# Altium schematic symbol library kmilo17pet-TI_LDO_400_7500.SchLib: 1409 symbols (part 25 of 60)
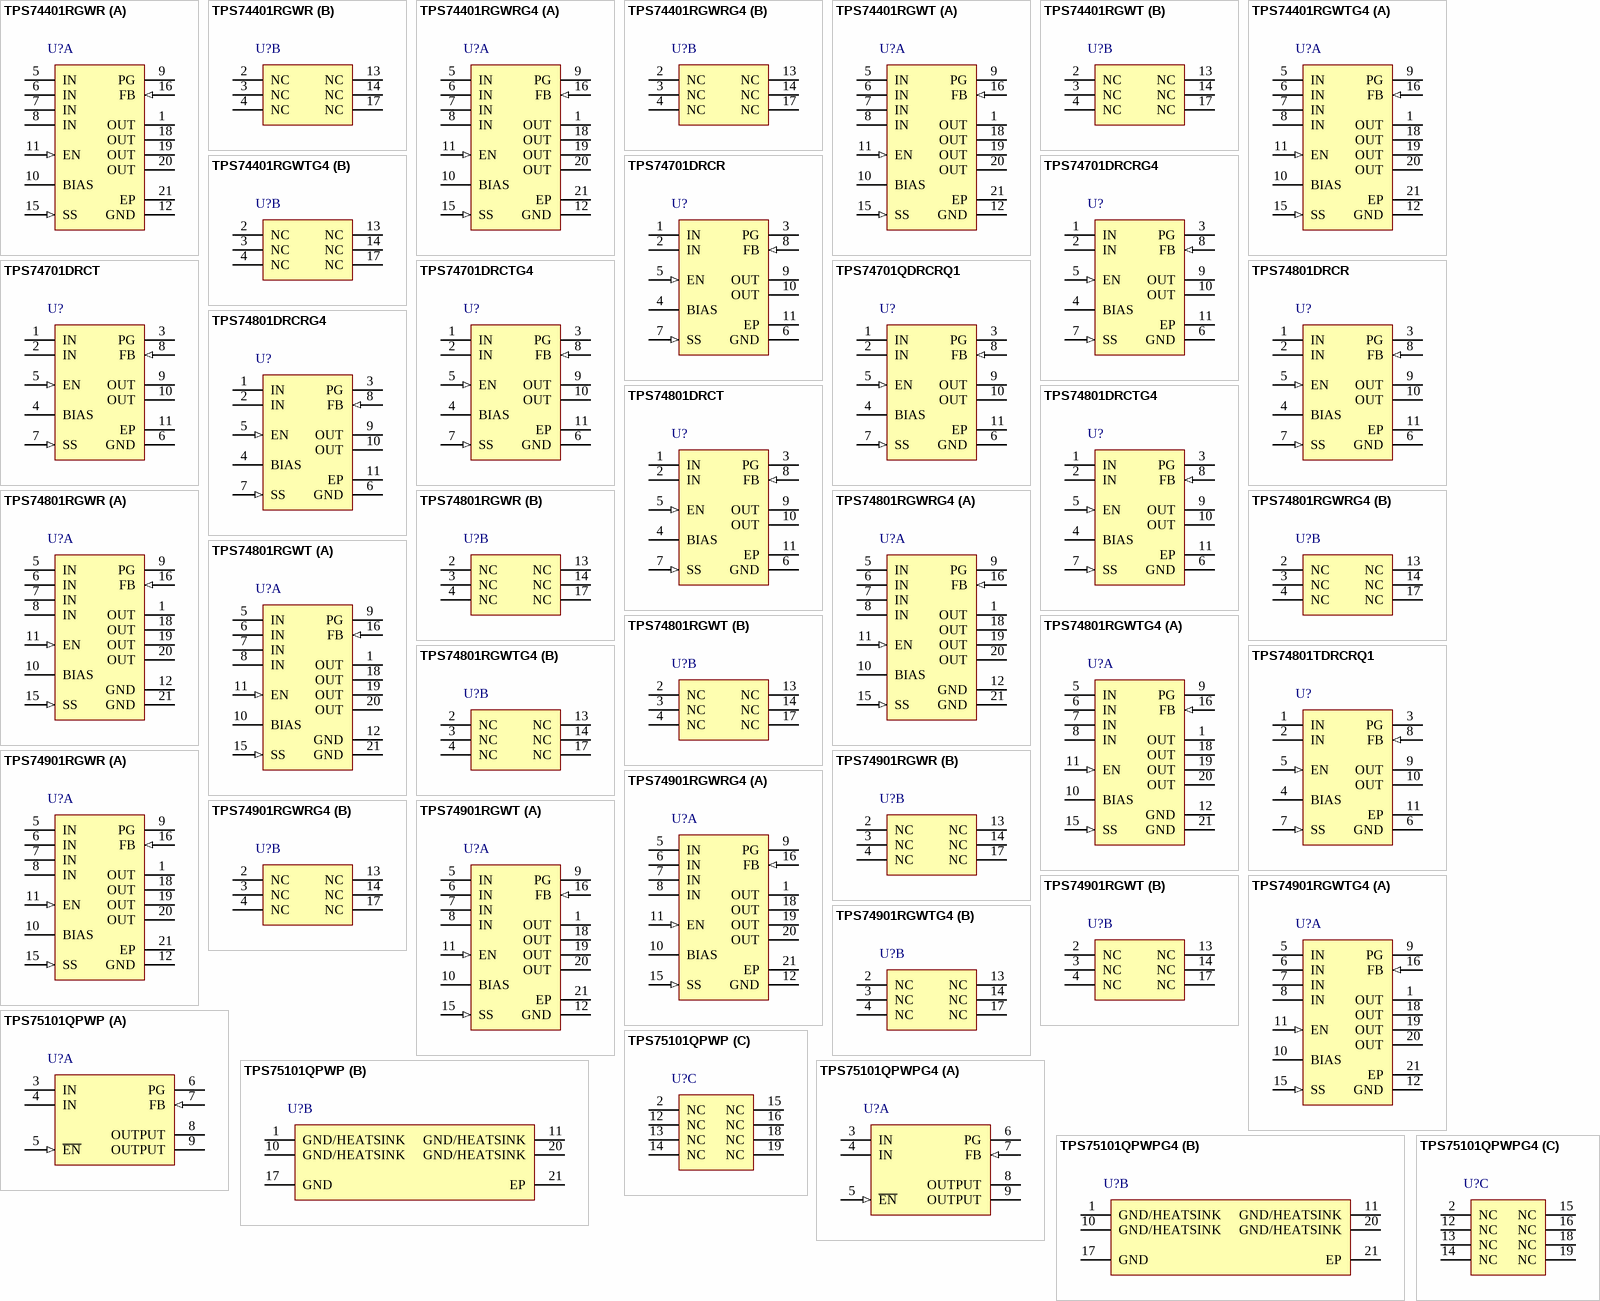
[diagram p74: symbols TPS74401RGWR to TPS75101QPWPG4]

## TPS74801DRCRG4
designator U?
Single Output LDO, 1.5 A, Adjustable 0.8 to 3.6 V Output, 0.8 to 5.5 V Input, with Programmable Soft Start, 10-pin SON (DRC), -40 to 125 degC, Green (RoHS & no Sb/Br); Manufacturer: Texas Instruments; PartNumber: TPS74801DRCRG4; Accuracy(%): 2; Iout(Max)(A): 1.5; Iq(Typ)(mA): 1; Power Good: TRUE; Rating: Catalog; SubFamily: Single Channel LDO; Vdo(Typ)(mV): 60; Vin(Max)(V): 5.5; Vin(Min)(V): 0.8; Vout Adj(Max)(V): 3.6; DatasheetVersion: SBVS074J; PackageVersion: 4204102-3/L; PackageReference: DRC10-2400X1650TP; PackageDescription: 10-Pin Plastic Small Outline, Body 3 x 3 mm, Pitch 0.5 mm; Supplier 1: Digi-Key; Supplier Part Number 1: TPS74801DRCRG4-ND; Supplier 2: Newark; Supplier Part Number 2: 34M0216; Supplier 3: Mouser; Supplier Part Number 3: 595-TPS74801DRCRG4; Eco-Plan: Green (RoHS & no Sb/Br); Vout Adj(Min)(V): 0.8; Mounting Technology: Surface Mount; ComponentLink1Description: Manufacturer URL; ComponentLink1URL: http://www.ti.com/; ComponentLink2Description: Datasheet; ComponentLink2URL: http://www.ti.com/general/docs/lit/getliterature.tsp?genericPartNumber=TPS74801&fileType=pdf; ComponentLink3Description: Package Specification; ComponentLink3URL: http://www.ti.com/litv/pdf/mpds117k; ComponentLink4Description: URL Link1; ComponentLink4URL: Samples URL:http://www.ti.com/product/tps74801#samples
footprint TI-DRC10-2400X1650TP_V (SON, 10-Leads, Body 3x3mm, Pitch 0.5mm, Thermal Pad 3x1.65mm)
pins: 1 IN (power) "Input to the device.", 2 IN (power) "Input to the device.", 3 PG (hiz) "Power Good pin. An open-drain, active-high output that indicates the status of VOUT. When VOUT exceeds the PG trip threshold, the PG pin goes into a high-impedance state. When VOUT is below this threshold the pin is driven (See Datasheet)", 4 BIAS (power) "Bias input voltage for error amplifier, reference, and internal control circuits.", 5 EN (in) "Enable pin. Driving this pin high enables the regulator. Driving this pin low puts the regulator into shutdown mode. This pin must not be left unconnected.", 6 GND (power) "Ground", 7 SS (in) "Soft-Start pin. A capacitor connected on this pin to ground sets the start-up time. If this pin is left unconnected, the regulator output soft-start ramp time is typically 200us.", 8 FB (in) "Feedback pin. The feedback connection to the center tap of an external resistor divider network that sets the output voltage. This pin must not be left floating.", 9 OUT (power) "Regulated output voltage. A small capacitor (total typical capacitance >= 2.2uF, ceramic) is needed from this pin to ground to assure stability.", 10 OUT (power) "Regulated output voltage. A small capacitor (total typical capacitance >= 2.2uF, ceramic) is needed from this pin to ground to assure stability.", 11 EP (power) "Should be soldered to the ground plane for increased thermal performance."

## TPS74801DRCT
designator U?
Single Output LDO, 1.5 A, Adjustable 0.8 to 3.6 V Output, 0.8 to 5.5 V Input, with Programmable Soft Start, 10-pin SON (DRC), -40 to 125 degC, Green (RoHS & no Sb/Br); Manufacturer: Texas Instruments; PartNumber: TPS74801DRCT; Accuracy(%): 2; Iout(Max)(A): 1.5; Iq(Typ)(mA): 1; Power Good: TRUE; Rating: Catalog; SubFamily: Single Channel LDO; Vdo(Typ)(mV): 60; Vin(Max)(V): 5.5; Vin(Min)(V): 0.8; Vout Adj(Max)(V): 3.6; DatasheetVersion: SBVS074J; PackageVersion: 4204102-3/L; PackageReference: DRC10-2400X1650TP; PackageDescription: 10-Pin Plastic Small Outline, Body 3 x 3 mm, Pitch 0.5 mm; Supplier 1: Digi-Key; Supplier Part Number 1: 296-27072-2-ND; Supplier 2: Digi-Key; Supplier Part Number 2: 296-27072-1-ND; Supplier 3: Digi-Key; Supplier Part Number 3: 296-27072-6-ND; Supplier 4: Newark; Supplier Part Number 4: 30M1869; Supplier 5: Mouser; Supplier Part Number 5: 595-TPS74801DRCT; Eco-Plan: Green (RoHS & no Sb/Br); Vout Adj(Min)(V): 0.8; Mounting Technology: Surface Mount; ComponentLink1Description: Manufacturer URL; ComponentLink1URL: http://www.ti.com/; ComponentLink2Description: Datasheet; ComponentLink2URL: http://www.ti.com/general/docs/lit/getliterature.tsp?genericPartNumber=TPS74801&fileType=pdf; ComponentLink3Description: Package Specification; ComponentLink3URL: http://www.ti.com/litv/pdf/mpds117k; ComponentLink4Description: URL Link1; ComponentLink4URL: Samples URL:http://www.ti.com/product/tps74801#samples
footprint TI-DRC10-2400X1650TP_V (SON, 10-Leads, Body 3x3mm, Pitch 0.5mm, Thermal Pad 3x1.65mm)
pins: 1 IN (power) "Input to the device.", 2 IN (power) "Input to the device.", 3 PG (hiz) "Power Good pin. An open-drain, active-high output that indicates the status of VOUT. When VOUT exceeds the PG trip threshold, the PG pin goes into a high-impedance state. When VOUT is below this threshold the pin is driven (See Datasheet)", 4 BIAS (power) "Bias input voltage for error amplifier, reference, and internal control circuits.", 5 EN (in) "Enable pin. Driving this pin high enables the regulator. Driving this pin low puts the regulator into shutdown mode. This pin must not be left unconnected.", 6 GND (power) "Ground", 7 SS (in) "Soft-Start pin. A capacitor connected on this pin to ground sets the start-up time. If this pin is left unconnected, the regulator output soft-start ramp time is typically 200us.", 8 FB (in) "Feedback pin. The feedback connection to the center tap of an external resistor divider network that sets the output voltage. This pin must not be left floating.", 9 OUT (power) "Regulated output voltage. A small capacitor (total typical capacitance >= 2.2uF, ceramic) is needed from this pin to ground to assure stability.", 10 OUT (power) "Regulated output voltage. A small capacitor (total typical capacitance >= 2.2uF, ceramic) is needed from this pin to ground to assure stability.", 11 EP (power) "Should be soldered to the ground plane for increased thermal performance."

## TPS74801DRCTG4
designator U?
Single Output LDO, 1.5 A, Adjustable 0.8 to 3.6 V Output, 0.8 to 5.5 V Input, with Programmable Soft Start, 10-pin SON (DRC), -40 to 125 degC, Green (RoHS & no Sb/Br); Manufacturer: Texas Instruments; PartNumber: TPS74801DRCTG4; Accuracy(%): 2; Iout(Max)(A): 1.5; Iq(Typ)(mA): 1; Power Good: TRUE; Rating: Catalog; SubFamily: Single Channel LDO; Vdo(Typ)(mV): 60; Vin(Max)(V): 5.5; Vin(Min)(V): 0.8; Vout Adj(Max)(V): 3.6; DatasheetVersion: SBVS074J; PackageVersion: 4204102-3/L; PackageReference: DRC10-2400X1650TP; PackageDescription: 10-Pin Plastic Small Outline, Body 3 x 3 mm, Pitch 0.5 mm; Supplier 1: Digi-Key; Supplier Part Number 1: TPS74801DRCTG4-ND; Supplier 2: Newark; Supplier Part Number 2: 34M0217; Supplier 3: Mouser; Supplier Part Number 3: 595-TPS74801DRCTG4; Eco-Plan: Green (RoHS & no Sb/Br); Vout Adj(Min)(V): 0.8; Mounting Technology: Surface Mount; ComponentLink1Description: Manufacturer URL; ComponentLink1URL: http://www.ti.com/; ComponentLink2Description: Datasheet; ComponentLink2URL: http://www.ti.com/general/docs/lit/getliterature.tsp?genericPartNumber=TPS74801&fileType=pdf; ComponentLink3Description: Package Specification; ComponentLink3URL: http://www.ti.com/litv/pdf/mpds117k; ComponentLink4Description: URL Link1; ComponentLink4URL: Samples URL:http://www.ti.com/product/tps74801#samples
footprint TI-DRC10-2400X1650TP_V (SON, 10-Leads, Body 3x3mm, Pitch 0.5mm, Thermal Pad 3x1.65mm)
pins: 1 IN (power) "Input to the device.", 2 IN (power) "Input to the device.", 3 PG (hiz) "Power Good pin. An open-drain, active-high output that indicates the status of VOUT. When VOUT exceeds the PG trip threshold, the PG pin goes into a high-impedance state. When VOUT is below this threshold the pin is driven (See Datasheet)", 4 BIAS (power) "Bias input voltage for error amplifier, reference, and internal control circuits.", 5 EN (in) "Enable pin. Driving this pin high enables the regulator. Driving this pin low puts the regulator into shutdown mode. This pin must not be left unconnected.", 6 GND (power) "Ground", 7 SS (in) "Soft-Start pin. A capacitor connected on this pin to ground sets the start-up time. If this pin is left unconnected, the regulator output soft-start ramp time is typically 200us.", 8 FB (in) "Feedback pin. The feedback connection to the center tap of an external resistor divider network that sets the output voltage. This pin must not be left floating.", 9 OUT (power) "Regulated output voltage. A small capacitor (total typical capacitance >= 2.2uF, ceramic) is needed from this pin to ground to assure stability.", 10 OUT (power) "Regulated output voltage. A small capacitor (total typical capacitance >= 2.2uF, ceramic) is needed from this pin to ground to assure stability.", 11 EP (power) "Should be soldered to the ground plane for increased thermal performance."

## TPS74801RGWR
designator U?
Single Output LDO, 1.5 A, Adjustable 0.8 to 3.6 V Output, 0.8 to 5.5 V Input, with Programmable Soft Start, 20-pin VQFN (RGW), -40 to 125 degC, Green (RoHS & no Sb/Br); Manufacturer: Texas Instruments; PartNumber: TPS74801RGWR; Accuracy(%): 2; Iout(Max)(A): 1.5; Iq(Typ)(mA): 1; Power Good: TRUE; Rating: Catalog; SubFamily: Single Channel LDO; Vdo(Typ)(mV): 60; Vin(Max)(V): 5.5; Vin(Min)(V): 0.8; Vout Adj(Max)(V): 3.6; DatasheetVersion: SBVS074J; PackageReference: RGW20-3150X3150TP; PackageDescription: 20-Pin Plastic Quad Flat No-Pin, 5 x 5 mm Body, 0.65 mm Pitch, 3.15 x 3.15 mm Exposed Pad; Supplier 1: Digi-Key; Supplier Part Number 1: 296-21977-2-ND; Supplier 2: Digi-Key; Supplier Part Number 2: 296-21977-1-ND; Supplier 3: Digi-Key; Supplier Part Number 3: 296-21977-6-ND; Supplier 4: Farnell; Supplier Part Number 4: 2120473; Supplier 5: Newark; Supplier Part Number 5: 94T5105; Supplier 6: Newark; Supplier Part Number 6: 46M9317; Supplier 7: Mouser; Supplier Part Number 7: 595-TPS74801RGWR; Eco-Plan: Green (RoHS & no Sb/Br); Vout Adj(Min)(V): 0.8; Mounting Technology: Surface Mount; Code_JEDEC: MO-220; ComponentLink1Description: Manufacturer URL; ComponentLink1URL: http://www.ti.com/; ComponentLink2Description: Datasheet; ComponentLink2URL: http://www.ti.com/general/docs/lit/getliterature.tsp?genericPartNumber=TPS74801&fileType=pdf; ComponentLink3Description: Package Specification; ComponentLink3URL: http://www.ti.com/litv/pdf/mpqf122b; ComponentLink4Description: URL Link1; ComponentLink4URL: Samples URL:http://www.ti.com/product/tps74801#samples
footprint TI-RGW20-3150X3150TP_V (QFN, 20-Leads, Body 5x5mm, Pitch 0.65mm, Thermal Pad 3.15x3.15mm)
part A pins: 1 OUT (power) "Regulated output voltage. A small capacitor (total typical capacitance >= 2.2uF, ceramic) is needed from this pin to ground to assure stability.", 5 IN (power) "Input to the device.", 6 IN (power) "Input to the device.", 7 IN (power) "Input to the device.", 8 IN (power) "Input to the device.", 9 PG (hiz) "Power Good pin. An open-drain, active-high output that indicates the status of VOUT. When VOUT exceeds the PG trip threshold, the PG pin goes into a high-impedance state. When VOUT is below this threshold the pin is driven (See Datasheet)", 10 BIAS (power) "Bias input voltage for error amplifier, reference, and internal control circuits.", 11 EN (in) "Enable pin. Driving this pin high enables the regulator. Driving this pin low puts the regulator into shutdown mode. This pin must not be left unconnected.", 12 GND (power), 15 SS (in) "Soft-Start pin. A capacitor connected on this pin to ground sets the start-up time. If this pin is left unconnected, the regulator output soft-start ramp time is typically 200us.", 16 FB (in) "Feedback pin. The feedback connection to the center tap of an external resistor divider network that sets the output voltage. This pin must not be left floating.", 18 OUT (power) "Regulated output voltage. A small capacitor (total typical capacitance >= 2.2uF, ceramic) is needed from this pin to ground to assure stability.", 19 OUT (power) "Regulated output voltage. A small capacitor (total typical capacitance >= 2.2uF, ceramic) is needed from this pin to ground to assure stability.", 20 OUT (power) "Regulated output voltage. A small capacitor (total typical capacitance >= 2.2uF, ceramic) is needed from this pin to ground to assure stability.", 21 GND (power) "Should be soldered to the ground plane for increased thermal performance."
part B pins: 2 NC "No connection. This pin can be left floating or connected to GND to allow better thermal contact to the top-side plane.", 3 NC "No connection. This pin can be left floating or connected to GND to allow better thermal contact to the top-side plane.", 4 NC "No connection. This pin can be left floating or connected to GND to allow better thermal contact to the top-side plane.", 13 NC "No connection. This pin can be left floating or connected to GND to allow better thermal contact to the top-side plane.", 14 NC "No connection. This pin can be left floating or connected to GND to allow better thermal contact to the top-side plane.", 17 NC "No connection. This pin can be left floating or connected to GND to allow better thermal contact to the top-side plane."

## TPS74801RGWRG4
designator U?
Single Output LDO, 1.5 A, Adjustable 0.8 to 3.6 V Output, 0.8 to 5.5 V Input, with Programmable Soft Start, 20-pin VQFN (RGW), -40 to 125 degC, Green (RoHS & no Sb/Br); Manufacturer: Texas Instruments; PartNumber: TPS74801RGWRG4; Accuracy(%): 2; Iout(Max)(A): 1.5; Iq(Typ)(mA): 1; Power Good: TRUE; Rating: Catalog; SubFamily: Single Channel LDO; Vdo(Typ)(mV): 60; Vin(Max)(V): 5.5; Vin(Min)(V): 0.8; Vout Adj(Max)(V): 3.6; DatasheetVersion: SBVS074J; PackageReference: RGW20-3150X3150TP; PackageDescription: 20-Pin Plastic Quad Flat No-Pin, 5 x 5 mm Body, 0.65 mm Pitch, 3.15 x 3.15 mm Exposed Pad; Supplier 1: Digi-Key; Supplier Part Number 1: TPS74801RGWRG4-ND; Supplier 2: Newark; Supplier Part Number 2: 52M6164; Supplier 3: Mouser; Supplier Part Number 3: 595-TPS74801RGWRG4; Eco-Plan: Green (RoHS & no Sb/Br); Vout Adj(Min)(V): 0.8; Mounting Technology: Surface Mount; Code_JEDEC: MO-220; ComponentLink1Description: Manufacturer URL; ComponentLink1URL: http://www.ti.com/; ComponentLink2Description: Datasheet; ComponentLink2URL: http://www.ti.com/general/docs/lit/getliterature.tsp?genericPartNumber=TPS74801&fileType=pdf; ComponentLink3Description: Package Specification; ComponentLink3URL: http://www.ti.com/litv/pdf/mpqf122b; ComponentLink4Description: URL Link1; ComponentLink4URL: Samples URL:http://www.ti.com/product/tps74801#samples
footprint TI-RGW20-3150X3150TP_V (QFN, 20-Leads, Body 5x5mm, Pitch 0.65mm, Thermal Pad 3.15x3.15mm)
part A pins: 1 OUT (power) "Regulated output voltage. A small capacitor (total typical capacitance >= 2.2uF, ceramic) is needed from this pin to ground to assure stability.", 5 IN (power) "Input to the device.", 6 IN (power) "Input to the device.", 7 IN (power) "Input to the device.", 8 IN (power) "Input to the device.", 9 PG (hiz) "Power Good pin. An open-drain, active-high output that indicates the status of VOUT. When VOUT exceeds the PG trip threshold, the PG pin goes into a high-impedance state. When VOUT is below this threshold the pin is driven (See Datasheet)", 10 BIAS (power) "Bias input voltage for error amplifier, reference, and internal control circuits.", 11 EN (in) "Enable pin. Driving this pin high enables the regulator. Driving this pin low puts the regulator into shutdown mode. This pin must not be left unconnected.", 12 GND (power), 15 SS (in) "Soft-Start pin. A capacitor connected on this pin to ground sets the start-up time. If this pin is left unconnected, the regulator output soft-start ramp time is typically 200us.", 16 FB (in) "Feedback pin. The feedback connection to the center tap of an external resistor divider network that sets the output voltage. This pin must not be left floating.", 18 OUT (power) "Regulated output voltage. A small capacitor (total typical capacitance >= 2.2uF, ceramic) is needed from this pin to ground to assure stability.", 19 OUT (power) "Regulated output voltage. A small capacitor (total typical capacitance >= 2.2uF, ceramic) is needed from this pin to ground to assure stability.", 20 OUT (power) "Regulated output voltage. A small capacitor (total typical capacitance >= 2.2uF, ceramic) is needed from this pin to ground to assure stability.", 21 GND (power) "Should be soldered to the ground plane for increased thermal performance."
part B pins: 2 NC "No connection. This pin can be left floating or connected to GND to allow better thermal contact to the top-side plane.", 3 NC "No connection. This pin can be left floating or connected to GND to allow better thermal contact to the top-side plane.", 4 NC "No connection. This pin can be left floating or connected to GND to allow better thermal contact to the top-side plane.", 13 NC "No connection. This pin can be left floating or connected to GND to allow better thermal contact to the top-side plane.", 14 NC "No connection. This pin can be left floating or connected to GND to allow better thermal contact to the top-side plane.", 17 NC "No connection. This pin can be left floating or connected to GND to allow better thermal contact to the top-side plane."

## TPS74801RGWT
designator U?
Single Output LDO, 1.5 A, Adjustable 0.8 to 3.6 V Output, 0.8 to 5.5 V Input, with Programmable Soft Start, 20-pin VQFN (RGW), -40 to 125 degC, Green (RoHS & no Sb/Br); Manufacturer: Texas Instruments; PartNumber: TPS74801RGWT; Accuracy(%): 2; Iout(Max)(A): 1.5; Iq(Typ)(mA): 1; Power Good: TRUE; Rating: Catalog; SubFamily: Single Channel LDO; Vdo(Typ)(mV): 60; Vin(Max)(V): 5.5; Vin(Min)(V): 0.8; Vout Adj(Max)(V): 3.6; DatasheetVersion: SBVS074J; PackageReference: RGW20-3150X3150TP; PackageDescription: 20-Pin Plastic Quad Flat No-Pin, 5 x 5 mm Body, 0.65 mm Pitch, 3.15 x 3.15 mm Exposed Pad; Supplier 1: Digi-Key; Supplier Part Number 1: 296-27073-2-ND; Supplier 2: Digi-Key; Supplier Part Number 2: 296-27073-1-ND; Supplier 3: Digi-Key; Supplier Part Number 3: 296-27073-6-ND; Supplier 4: Farnell; Supplier Part Number 4: 2075412; Supplier 5: Newark; Supplier Part Number 5: 82T3177; Supplier 6: Newark; Supplier Part Number 6: 78M6643; Supplier 7: Mouser; Supplier Part Number 7: 595-TPS74801RGWT; Eco-Plan: Green (RoHS & no Sb/Br); Vout Adj(Min)(V): 0.8; Mounting Technology: Surface Mount; Code_JEDEC: MO-220; ComponentLink1Description: Manufacturer URL; ComponentLink1URL: http://www.ti.com/; ComponentLink2Description: Datasheet; ComponentLink2URL: http://www.ti.com/general/docs/lit/getliterature.tsp?genericPartNumber=TPS74801&fileType=pdf; ComponentLink3Description: Package Specification; ComponentLink3URL: http://www.ti.com/litv/pdf/mpqf122b; ComponentLink4Description: URL Link1; ComponentLink4URL: Samples URL:http://www.ti.com/product/tps74801#samples
footprint TI-RGW20-3150X3150TP_V (QFN, 20-Leads, Body 5x5mm, Pitch 0.65mm, Thermal Pad 3.15x3.15mm)
part A pins: 1 OUT (power) "Regulated output voltage. A small capacitor (total typical capacitance >= 2.2uF, ceramic) is needed from this pin to ground to assure stability.", 5 IN (power) "Input to the device.", 6 IN (power) "Input to the device.", 7 IN (power) "Input to the device.", 8 IN (power) "Input to the device.", 9 PG (hiz) "Power Good pin. An open-drain, active-high output that indicates the status of VOUT. When VOUT exceeds the PG trip threshold, the PG pin goes into a high-impedance state. When VOUT is below this threshold the pin is driven (See Datasheet)", 10 BIAS (power) "Bias input voltage for error amplifier, reference, and internal control circuits.", 11 EN (in) "Enable pin. Driving this pin high enables the regulator. Driving this pin low puts the regulator into shutdown mode. This pin must not be left unconnected.", 12 GND (power), 15 SS (in) "Soft-Start pin. A capacitor connected on this pin to ground sets the start-up time. If this pin is left unconnected, the regulator output soft-start ramp time is typically 200us.", 16 FB (in) "Feedback pin. The feedback connection to the center tap of an external resistor divider network that sets the output voltage. This pin must not be left floating.", 18 OUT (power) "Regulated output voltage. A small capacitor (total typical capacitance >= 2.2uF, ceramic) is needed from this pin to ground to assure stability.", 19 OUT (power) "Regulated output voltage. A small capacitor (total typical capacitance >= 2.2uF, ceramic) is needed from this pin to ground to assure stability.", 20 OUT (power) "Regulated output voltage. A small capacitor (total typical capacitance >= 2.2uF, ceramic) is needed from this pin to ground to assure stability.", 21 GND (power) "Should be soldered to the ground plane for increased thermal performance."
part B pins: 2 NC "No connection. This pin can be left floating or connected to GND to allow better thermal contact to the top-side plane.", 3 NC "No connection. This pin can be left floating or connected to GND to allow better thermal contact to the top-side plane.", 4 NC "No connection. This pin can be left floating or connected to GND to allow better thermal contact to the top-side plane.", 13 NC "No connection. This pin can be left floating or connected to GND to allow better thermal contact to the top-side plane.", 14 NC "No connection. This pin can be left floating or connected to GND to allow better thermal contact to the top-side plane.", 17 NC "No connection. This pin can be left floating or connected to GND to allow better thermal contact to the top-side plane."

## TPS74801RGWTG4
designator U?
Single Output LDO, 1.5 A, Adjustable 0.8 to 3.6 V Output, 0.8 to 5.5 V Input, with Programmable Soft Start, 20-pin VQFN (RGW), -40 to 125 degC, Green (RoHS & no Sb/Br); Manufacturer: Texas Instruments; PartNumber: TPS74801RGWTG4; Accuracy(%): 2; Iout(Max)(A): 1.5; Iq(Typ)(mA): 1; Power Good: TRUE; Rating: Catalog; SubFamily: Single Channel LDO; Vdo(Typ)(mV): 60; Vin(Max)(V): 5.5; Vin(Min)(V): 0.8; Vout Adj(Max)(V): 3.6; DatasheetVersion: SBVS074J; PackageReference: RGW20-3150X3150TP; PackageDescription: 20-Pin Plastic Quad Flat No-Pin, 5 x 5 mm Body, 0.65 mm Pitch, 3.15 x 3.15 mm Exposed Pad; Supplier 1: Digi-Key; Supplier Part Number 1: TPS74801RGWTG4-ND; Supplier 2: Newark; Supplier Part Number 2: 52M6165; Supplier 3: Mouser; Supplier Part Number 3: 595-TPS74801RGWTG4; Eco-Plan: Green (RoHS & no Sb/Br); Vout Adj(Min)(V): 0.8; Mounting Technology: Surface Mount; Code_JEDEC: MO-220; ComponentLink1Description: Manufacturer URL; ComponentLink1URL: http://www.ti.com/; ComponentLink2Description: Datasheet; ComponentLink2URL: http://www.ti.com/general/docs/lit/getliterature.tsp?genericPartNumber=TPS74801&fileType=pdf; ComponentLink3Description: Package Specification; ComponentLink3URL: http://www.ti.com/litv/pdf/mpqf122b; ComponentLink4Description: URL Link1; ComponentLink4URL: Samples URL:http://www.ti.com/product/tps74801#samples
footprint TI-RGW20-3150X3150TP_V (QFN, 20-Leads, Body 5x5mm, Pitch 0.65mm, Thermal Pad 3.15x3.15mm)
part A pins: 1 OUT (power) "Regulated output voltage. A small capacitor (total typical capacitance >= 2.2uF, ceramic) is needed from this pin to ground to assure stability.", 5 IN (power) "Input to the device.", 6 IN (power) "Input to the device.", 7 IN (power) "Input to the device.", 8 IN (power) "Input to the device.", 9 PG (hiz) "Power Good pin. An open-drain, active-high output that indicates the status of VOUT. When VOUT exceeds the PG trip threshold, the PG pin goes into a high-impedance state. When VOUT is below this threshold the pin is driven (See Datasheet)", 10 BIAS (power) "Bias input voltage for error amplifier, reference, and internal control circuits.", 11 EN (in) "Enable pin. Driving this pin high enables the regulator. Driving this pin low puts the regulator into shutdown mode. This pin must not be left unconnected.", 12 GND (power), 15 SS (in) "Soft-Start pin. A capacitor connected on this pin to ground sets the start-up time. If this pin is left unconnected, the regulator output soft-start ramp time is typically 200us.", 16 FB (in) "Feedback pin. The feedback connection to the center tap of an external resistor divider network that sets the output voltage. This pin must not be left floating.", 18 OUT (power) "Regulated output voltage. A small capacitor (total typical capacitance >= 2.2uF, ceramic) is needed from this pin to ground to assure stability.", 19 OUT (power) "Regulated output voltage. A small capacitor (total typical capacitance >= 2.2uF, ceramic) is needed from this pin to ground to assure stability.", 20 OUT (power) "Regulated output voltage. A small capacitor (total typical capacitance >= 2.2uF, ceramic) is needed from this pin to ground to assure stability.", 21 GND (power) "Should be soldered to the ground plane for increased thermal performance."
part B pins: 2 NC "No connection. This pin can be left floating or connected to GND to allow better thermal contact to the top-side plane.", 3 NC "No connection. This pin can be left floating or connected to GND to allow better thermal contact to the top-side plane.", 4 NC "No connection. This pin can be left floating or connected to GND to allow better thermal contact to the top-side plane.", 13 NC "No connection. This pin can be left floating or connected to GND to allow better thermal contact to the top-side plane.", 14 NC "No connection. This pin can be left floating or connected to GND to allow better thermal contact to the top-side plane.", 17 NC "No connection. This pin can be left floating or connected to GND to allow better thermal contact to the top-side plane."

## TPS74801TDRCRQ1
designator U?
Single Output LDO, 1.5 A, Adjustable 0.8 to 3.6 V Output, 0.8 to 5.5 V Input, with Programmable Soft Start, 10-pin SON (DRC), -40 to 105 degC, Green (RoHS & no Sb/Br); Manufacturer: Texas Instruments; PartNumber: TPS74801TDRCRQ1; Accuracy(%): 2; Iout(Max)(A): 1.5; Iq(Typ)(mA): 1; Power Good: TRUE; Rating: Automotive; SubFamily: Single Channel LDO; Vdo(Typ)(mV): 60; Vin(Max)(V): 5.5; Vin(Min)(V): 0.8; Vout Adj(Max)(V): 3.6; DatasheetVersion: SLVSAI4A; PackageVersion: 4204102-3/L; PackageReference: DRC10-2400X1650TP; PackageDescription: 10-Pin Plastic Small Outline, Body 3 x 3 mm, Pitch 0.5 mm; Supplier 1: Digi-Key; Supplier Part Number 1: 296-27887-2-ND; Supplier 2: Digi-Key; Supplier Part Number 2: 296-27887-1-ND; Supplier 3: Digi-Key; Supplier Part Number 3: 296-27887-6-ND; Supplier 4: Newark; Supplier Part Number 4: 13T5968; Supplier 5: Mouser; Supplier Part Number 5: 595-TPS74801TDRCRQ1; Eco-Plan: Green (RoHS & no Sb/Br); Vout Adj(Min)(V): 0.8; Mounting Technology: Surface Mount; ComponentLink1Description: Manufacturer URL; ComponentLink1URL: http://www.ti.com/; ComponentLink2Description: Datasheet; ComponentLink2URL: http://www.ti.com/general/docs/lit/getliterature.tsp?genericPartNumber=TPS74801-Q1&fileType=pdf; ComponentLink3Description: Package Specification; ComponentLink3URL: http://www.ti.com/litv/pdf/mpds117k; ComponentLink4Description: URL Link1; ComponentLink4URL: Samples URL:http://www.ti.com/product/tps74801-q1#samples
footprint TI-DRC10-2400X1650TP_V (SON, 10-Leads, Body 3x3mm, Pitch 0.5mm, Thermal Pad 3x1.65mm)
pins: 1 IN (power) "Input to the device.", 2 IN (power) "Input to the device.", 3 PG (hiz) "Power Good pin. An open-drain, active-high output that indicates the status of VOUT. When VOUT exceeds the PG trip threshold, the PG pin goes into a high-impedance state. When VOUT is below this threshold the pin is driven (See Datasheet)", 4 BIAS (power) "Bias input voltage for error amplifier, reference, and internal control circuits.", 5 EN (in) "Enable pin. Driving this pin high enables the regulator. Driving this pin low puts the regulator into shutdown mode. This pin must not be left unconnected.", 6 GND (power) "Ground", 7 SS (in) "Soft-Start pin. A capacitor connected on this pin to ground sets the start-up time. If this pin is left unconnected, the regulator output soft-start ramp time is typically 200us.", 8 FB (in) "Feedback pin. The feedback connection to the center tap of an external resistor divider network that sets the output voltage. This pin must not be left floating.", 9 OUT (power) "Regulated output voltage. A small capacitor (total typical capacitance >= 2.2uF, ceramic) is needed from this pin to ground to assure stability.", 10 OUT (power) "Regulated output voltage. A small capacitor (total typical capacitance >= 2.2uF, ceramic) is needed from this pin to ground to assure stability.", 11 EP (power) "Should be soldered to the ground plane for increased thermal performance."

## TPS74901RGWR
designator U?
Single Output LDO, 3 A, Adjustable 0.8 to 3.6 V Output, 0.8 to 5.5 V Input, with Programmable Soft Start, 20-pin VQFN (RGW), -40 to 125 degC, Green (RoHS & no Sb/Br); Manufacturer: Texas Instruments; PartNumber: TPS74901RGWR; Accuracy(%): 2; Iout(Max)(A): 3; Power Good: TRUE; Rating: Catalog; SubFamily: Single Channel LDO; Vdo(Typ)(mV): 120; Vin(Max)(V): 5.5; Vin(Min)(V): 0.8; Vout Adj(Max)(V): 3.6; DatasheetVersion: SBVS082G; PackageReference: RGW20-3150X3150TP; PackageDescription: 20-Pin Plastic Quad Flat No-Pin, 5 x 5 mm Body, 0.65 mm Pitch, 3.15 x 3.15 mm Exposed Pad; Supplier 1: Digi-Key; Supplier Part Number 1: 296-22498-2-ND; Supplier 2: Digi-Key; Supplier Part Number 2: 296-22498-1-ND; Supplier 3: Digi-Key; Supplier Part Number 3: 296-22498-6-ND; Supplier 4: Newark; Supplier Part Number 4: 48M0958; Supplier 5: Mouser; Supplier Part Number 5: 595-TPS74901RGWR; Eco-Plan: Green (RoHS & no Sb/Br); Iq(Typ)(mA): 3; Vout Adj(Min)(V): 0.8; Mounting Technology: Surface Mount; Code_JEDEC: MO-220; ComponentLink1Description: Manufacturer URL; ComponentLink1URL: http://www.ti.com/; ComponentLink2Description: Datasheet; ComponentLink2URL: http://www.ti.com/general/docs/lit/getliterature.tsp?genericPartNumber=TPS74901&fileType=pdf; ComponentLink3Description: Package Specification; ComponentLink3URL: http://www.ti.com/litv/pdf/mpqf122b
footprint TI-RGW20-3150X3150TP_V (QFN, 20-Leads, Body 5x5mm, Pitch 0.65mm, Thermal Pad 3.15x3.15mm)
part A pins: 1 OUT (power) "Regulated output voltage. No capacitor is required on this pin for stability.", 5 IN (power) "Unregulated input to the device.", 6 IN (power) "Unregulated input to the device.", 7 IN (power) "Unregulated input to the device.", 8 IN (power) "Unregulated input to the device.", 9 PG (hiz) "Power-Good (PG) is an open-drain, active-high output that indicates the status of VOUT. When VOUT exceeds the PG trip threshold, the PG pin goes into a high-impedance state. When VOUT is below this threshold the pin is (See Datasheet)", 10 BIAS (power) "Bias input voltage for error amplifier, reference, and internal control circuits.", 11 EN (in) "Enable pin. Driving this pin high enables the regulator. Driving this pin low puts the regulator into shutdown mode. This pin must not be left floating.", 12 GND (power) "Ground", 15 SS (in) "Soft-Start pin. A capacitor connected on this pin to ground sets the start-up time. If this pin is left floating, the regulator output soft-start ramp time is typically 100us.", 16 FB (in) "This pin is the feedback connection to the center tap of an external resistor divider network that sets the output voltage. This pin must not be left floating.", 18 OUT (power) "Regulated output voltage. No capacitor is required on this pin for stability.", 19 OUT (power) "Regulated output voltage. No capacitor is required on this pin for stability.", 20 OUT (power) "Regulated output voltage. No capacitor is required on this pin for stability.", 21 EP (power) "Should be soldered to the ground plane for increased thermal performance."
part B pins: 2 NC "No connection. This pin can be left floating or connected to GND to allow better thermal contact to the top-side plane.", 3 NC "No connection. This pin can be left floating or connected to GND to allow better thermal contact to the top-side plane.", 4 NC "No connection. This pin can be left floating or connected to GND to allow better thermal contact to the top-side plane.", 13 NC "No connection. This pin can be left floating or connected to GND to allow better thermal contact to the top-side plane.", 14 NC "No connection. This pin can be left floating or connected to GND to allow better thermal contact to the top-side plane.", 17 NC "No connection. This pin can be left floating or connected to GND to allow better thermal contact to the top-side plane."

## TPS74901RGWRG4
designator U?
Single Output LDO, 3 A, Adjustable 0.8 to 3.6 V Output, 0.8 to 5.5 V Input, with Programmable Soft Start, 20-pin VQFN (RGW), -40 to 125 degC, Green (RoHS & no Sb/Br); Manufacturer: Texas Instruments; PartNumber: TPS74901RGWRG4; Accuracy(%): 2; Iout(Max)(A): 3; Power Good: TRUE; Rating: Catalog; SubFamily: Single Channel LDO; Vdo(Typ)(mV): 120; Vin(Max)(V): 5.5; Vin(Min)(V): 0.8; Vout Adj(Max)(V): 3.6; DatasheetVersion: SBVS082G; PackageReference: RGW20-3150X3150TP; PackageDescription: 20-Pin Plastic Quad Flat No-Pin, 5 x 5 mm Body, 0.65 mm Pitch, 3.15 x 3.15 mm Exposed Pad; Supplier 1: Digi-Key; Supplier Part Number 1: TPS74901RGWRG4-ND; Supplier 2: Newark; Supplier Part Number 2: 52M6168; Supplier 3: Mouser; Supplier Part Number 3: 595-TPS74901RGWRG4; Eco-Plan: Green (RoHS & no Sb/Br); Iq(Typ)(mA): 3; Vout Adj(Min)(V): 0.8; Mounting Technology: Surface Mount; Code_JEDEC: MO-220; ComponentLink1Description: Manufacturer URL; ComponentLink1URL: http://www.ti.com/; ComponentLink2Description: Datasheet; ComponentLink2URL: http://www.ti.com/general/docs/lit/getliterature.tsp?genericPartNumber=TPS74901&fileType=pdf; ComponentLink3Description: Package Specification; ComponentLink3URL: http://www.ti.com/litv/pdf/mpqf122b
footprint TI-RGW20-3150X3150TP_V (QFN, 20-Leads, Body 5x5mm, Pitch 0.65mm, Thermal Pad 3.15x3.15mm)
part A pins: 1 OUT (power) "Regulated output voltage. No capacitor is required on this pin for stability.", 5 IN (power) "Unregulated input to the device.", 6 IN (power) "Unregulated input to the device.", 7 IN (power) "Unregulated input to the device.", 8 IN (power) "Unregulated input to the device.", 9 PG (hiz) "Power-Good (PG) is an open-drain, active-high output that indicates the status of VOUT. When VOUT exceeds the PG trip threshold, the PG pin goes into a high-impedance state. When VOUT is below this threshold the pin is (See Datasheet)", 10 BIAS (power) "Bias input voltage for error amplifier, reference, and internal control circuits.", 11 EN (in) "Enable pin. Driving this pin high enables the regulator. Driving this pin low puts the regulator into shutdown mode. This pin must not be left floating.", 12 GND (power) "Ground", 15 SS (in) "Soft-Start pin. A capacitor connected on this pin to ground sets the start-up time. If this pin is left floating, the regulator output soft-start ramp time is typically 100us.", 16 FB (in) "This pin is the feedback connection to the center tap of an external resistor divider network that sets the output voltage. This pin must not be left floating.", 18 OUT (power) "Regulated output voltage. No capacitor is required on this pin for stability.", 19 OUT (power) "Regulated output voltage. No capacitor is required on this pin for stability.", 20 OUT (power) "Regulated output voltage. No capacitor is required on this pin for stability.", 21 EP (power) "Should be soldered to the ground plane for increased thermal performance."
part B pins: 2 NC "No connection. This pin can be left floating or connected to GND to allow better thermal contact to the top-side plane.", 3 NC "No connection. This pin can be left floating or connected to GND to allow better thermal contact to the top-side plane.", 4 NC "No connection. This pin can be left floating or connected to GND to allow better thermal contact to the top-side plane.", 13 NC "No connection. This pin can be left floating or connected to GND to allow better thermal contact to the top-side plane.", 14 NC "No connection. This pin can be left floating or connected to GND to allow better thermal contact to the top-side plane.", 17 NC "No connection. This pin can be left floating or connected to GND to allow better thermal contact to the top-side plane."

## TPS74901RGWT
designator U?
Single Output LDO, 3 A, Adjustable 0.8 to 3.6 V Output, 0.8 to 5.5 V Input, with Programmable Soft Start, 20-pin VQFN (RGW), -40 to 125 degC, Green (RoHS & no Sb/Br); Manufacturer: Texas Instruments; PartNumber: TPS74901RGWT; Accuracy(%): 2; Iout(Max)(A): 3; Power Good: TRUE; Rating: Catalog; SubFamily: Single Channel LDO; Vdo(Typ)(mV): 120; Vin(Max)(V): 5.5; Vin(Min)(V): 0.8; Vout Adj(Max)(V): 3.6; DatasheetVersion: SBVS082G; PackageReference: RGW20-3150X3150TP; PackageDescription: 20-Pin Plastic Quad Flat No-Pin, 5 x 5 mm Body, 0.65 mm Pitch, 3.15 x 3.15 mm Exposed Pad; Supplier 1: Digi-Key; Supplier Part Number 1: 296-29842-2-ND; Supplier 2: Digi-Key; Supplier Part Number 2: 296-29842-1-ND; Supplier 3: Digi-Key; Supplier Part Number 3: 296-29842-6-ND; Supplier 4: Farnell; Supplier Part Number 4: 2075418; Supplier 5: Newark; Supplier Part Number 5: 48M0959; Supplier 6: Mouser; Supplier Part Number 6: 595-TPS74901RGWT; Eco-Plan: Green (RoHS & no Sb/Br); Iq(Typ)(mA): 3; Vout Adj(Min)(V): 0.8; Mounting Technology: Surface Mount; Code_JEDEC: MO-220; ComponentLink1Description: Manufacturer URL; ComponentLink1URL: http://www.ti.com/; ComponentLink2Description: Datasheet; ComponentLink2URL: http://www.ti.com/general/docs/lit/getliterature.tsp?genericPartNumber=TPS74901&fileType=pdf; ComponentLink3Description: Package Specification; ComponentLink3URL: http://www.ti.com/litv/pdf/mpqf122b
footprint TI-RGW20-3150X3150TP_V (QFN, 20-Leads, Body 5x5mm, Pitch 0.65mm, Thermal Pad 3.15x3.15mm)
part A pins: 1 OUT (power) "Regulated output voltage. No capacitor is required on this pin for stability.", 5 IN (power) "Unregulated input to the device.", 6 IN (power) "Unregulated input to the device.", 7 IN (power) "Unregulated input to the device.", 8 IN (power) "Unregulated input to the device.", 9 PG (hiz) "Power-Good (PG) is an open-drain, active-high output that indicates the status of VOUT. When VOUT exceeds the PG trip threshold, the PG pin goes into a high-impedance state. When VOUT is below this threshold the pin is (See Datasheet)", 10 BIAS (power) "Bias input voltage for error amplifier, reference, and internal control circuits.", 11 EN (in) "Enable pin. Driving this pin high enables the regulator. Driving this pin low puts the regulator into shutdown mode. This pin must not be left floating.", 12 GND (power) "Ground", 15 SS (in) "Soft-Start pin. A capacitor connected on this pin to ground sets the start-up time. If this pin is left floating, the regulator output soft-start ramp time is typically 100us.", 16 FB (in) "This pin is the feedback connection to the center tap of an external resistor divider network that sets the output voltage. This pin must not be left floating.", 18 OUT (power) "Regulated output voltage. No capacitor is required on this pin for stability.", 19 OUT (power) "Regulated output voltage. No capacitor is required on this pin for stability.", 20 OUT (power) "Regulated output voltage. No capacitor is required on this pin for stability.", 21 EP (power) "Should be soldered to the ground plane for increased thermal performance."
part B pins: 2 NC "No connection. This pin can be left floating or connected to GND to allow better thermal contact to the top-side plane.", 3 NC "No connection. This pin can be left floating or connected to GND to allow better thermal contact to the top-side plane.", 4 NC "No connection. This pin can be left floating or connected to GND to allow better thermal contact to the top-side plane.", 13 NC "No connection. This pin can be left floating or connected to GND to allow better thermal contact to the top-side plane.", 14 NC "No connection. This pin can be left floating or connected to GND to allow better thermal contact to the top-side plane.", 17 NC "No connection. This pin can be left floating or connected to GND to allow better thermal contact to the top-side plane."

## TPS74901RGWTG4
designator U?
Single Output LDO, 3 A, Adjustable 0.8 to 3.6 V Output, 0.8 to 5.5 V Input, with Programmable Soft Start, 20-pin VQFN (RGW), -40 to 125 degC, Green (RoHS & no Sb/Br); Manufacturer: Texas Instruments; PartNumber: TPS74901RGWTG4; Accuracy(%): 2; Iout(Max)(A): 3; Power Good: TRUE; Rating: Catalog; SubFamily: Single Channel LDO; Vdo(Typ)(mV): 120; Vin(Max)(V): 5.5; Vin(Min)(V): 0.8; Vout Adj(Max)(V): 3.6; DatasheetVersion: SBVS082G; PackageReference: RGW20-3150X3150TP; PackageDescription: 20-Pin Plastic Quad Flat No-Pin, 5 x 5 mm Body, 0.65 mm Pitch, 3.15 x 3.15 mm Exposed Pad; Supplier 1: Digi-Key; Supplier Part Number 1: TPS74901RGWTG4-ND; Supplier 2: Newark; Supplier Part Number 2: 52M6169; Supplier 3: Mouser; Supplier Part Number 3: 595-TPS74901RGWTG4; Eco-Plan: Green (RoHS & no Sb/Br); Iq(Typ)(mA): 3; Vout Adj(Min)(V): 0.8; Mounting Technology: Surface Mount; Code_JEDEC: MO-220; ComponentLink1Description: Manufacturer URL; ComponentLink1URL: http://www.ti.com/; ComponentLink2Description: Datasheet; ComponentLink2URL: http://www.ti.com/general/docs/lit/getliterature.tsp?genericPartNumber=TPS74901&fileType=pdf; ComponentLink3Description: Package Specification; ComponentLink3URL: http://www.ti.com/litv/pdf/mpqf122b
footprint TI-RGW20-3150X3150TP_V (QFN, 20-Leads, Body 5x5mm, Pitch 0.65mm, Thermal Pad 3.15x3.15mm)
part A pins: 1 OUT (power) "Regulated output voltage. No capacitor is required on this pin for stability.", 5 IN (power) "Unregulated input to the device.", 6 IN (power) "Unregulated input to the device.", 7 IN (power) "Unregulated input to the device.", 8 IN (power) "Unregulated input to the device.", 9 PG (hiz) "Power-Good (PG) is an open-drain, active-high output that indicates the status of VOUT. When VOUT exceeds the PG trip threshold, the PG pin goes into a high-impedance state. When VOUT is below this threshold the pin is (See Datasheet)", 10 BIAS (power) "Bias input voltage for error amplifier, reference, and internal control circuits.", 11 EN (in) "Enable pin. Driving this pin high enables the regulator. Driving this pin low puts the regulator into shutdown mode. This pin must not be left floating.", 12 GND (power) "Ground", 15 SS (in) "Soft-Start pin. A capacitor connected on this pin to ground sets the start-up time. If this pin is left floating, the regulator output soft-start ramp time is typically 100us.", 16 FB (in) "This pin is the feedback connection to the center tap of an external resistor divider network that sets the output voltage. This pin must not be left floating.", 18 OUT (power) "Regulated output voltage. No capacitor is required on this pin for stability.", 19 OUT (power) "Regulated output voltage. No capacitor is required on this pin for stability.", 20 OUT (power) "Regulated output voltage. No capacitor is required on this pin for stability.", 21 EP (power) "Should be soldered to the ground plane for increased thermal performance."
part B pins: 2 NC "No connection. This pin can be left floating or connected to GND to allow better thermal contact to the top-side plane.", 3 NC "No connection. This pin can be left floating or connected to GND to allow better thermal contact to the top-side plane.", 4 NC "No connection. This pin can be left floating or connected to GND to allow better thermal contact to the top-side plane.", 13 NC "No connection. This pin can be left floating or connected to GND to allow better thermal contact to the top-side plane.", 14 NC "No connection. This pin can be left floating or connected to GND to allow better thermal contact to the top-side plane.", 17 NC "No connection. This pin can be left floating or connected to GND to allow better thermal contact to the top-side plane."

## TPS75101QPWP
designator U?
Single Output Fast Transient Response LDO, 1.5 A, Adjustable 1.5 to 5 V Output, 2.7 to 5.5 V Input, with Power Good Output, 20-pin HTSSOP (PWP), -40 to 125 degC, Green (RoHS & no Sb/Br); Manufacturer: Texas Instruments; PartNumber: TPS75101QPWP; Accuracy(%): 2; Fixed Output Options(V): 1.5; Iq(Typ)(mA): 0.07; Power Good: TRUE; SubFamily: Single Channel LDO; Vdo(Typ)(mV): 160; Vin(Max)(V): 5.5; Vin(Min)(V): 2.7; Vout Adj(Max)(V): 5; DatasheetVersion: SLVS241C; PackageVersion: 4073225-4/1; PackageReference: PWP20-2675X1950TP; PackageDescription: 20-Pin Plastic Small Outline, Body 4.4 x 6.5 mm, Pitch 0.65 mm; Supplier 1: Digi-Key; Supplier Part Number 1: 296-2673-5-ND; Supplier 2: Farnell; Supplier Part Number 2: 1460874; Supplier 3: Newark; Supplier Part Number 3: 62M0778; Supplier 4: Newark; Supplier Part Number 4: 77C0896; Supplier 5: Mouser; Supplier Part Number 5: 595-TPS75101QPWP; Eco-Plan: Green (RoHS & no Sb/Br); Iout(Max)(A): 1.5; Vout Adj(Min)(V): 1.5; Mounting Technology: Surface Mount; Code_JEDEC: MO-153; ComponentLink1Description: Manufacturer URL; ComponentLink1URL: http://www.ti.com/; ComponentLink2Description: Datasheet; ComponentLink2URL: http://www.ti.com/general/docs/lit/getliterature.tsp?genericPartNumber=TPS75101&fileType=pdf; ComponentLink3Description: Package Specification; ComponentLink3URL: http://www.ti.com/litv/pdf/mhts001g
footprint TI-PWP20-2675X1950TP_N (SOP, 20-Leads, Body 6.5x4.4mm, Pitch 1.27mm, Thermal Pad 2.675x1.95 mm, IPC Medium Density)
footprint TI-PWP20-2675X1950TP_L (SOP, 20-Leads, Body 6.5x4.4mm, Pitch 1.27mm, Thermal Pad 2.675x1.95 mm, IPC High Density)
footprint TI-PWP20-2675X1950TP_M (SOP, 20-Leads, Body 6.5x4.4mm, Pitch 1.27mm, Thermal Pad 2.675x1.95 mm, IPC Low Density)
part A pins: 3 IN (power) "Input voltage", 4 IN (power) "Input voltage", 5 ~{EN} (in) "Negative polarity enable (E\N\) input", 6 PG (hiz) "open-drain power-good (PG) output.", 7 FB (in) "Adjustable voltage version only; feedback voltage for setting output voltage of the device.", 8 OUTPUT (power) "Regulated output voltage", 9 OUTPUT (power) "Regulated output voltage"
part B pins: 1 GND/HEATSINK (power) "Ground/heatsink", 10 GND/HEATSINK (power) "Ground/heatsink", 11 GND/HEATSINK (power) "Ground/heatsink", 17 GND (power) "Ground", 20 GND/HEATSINK (power) "Ground/heatsink", 21 EP (power)
part C pins: 2 NC "Not connected", 12 NC "Not connected", 13 NC "Not connected", 14 NC "Not connected", 15 NC "Not connected", 16 NC "Not connected", 18 NC "Not connected", 19 NC "Not connected"

## TPS75101QPWPG4
designator U?
Single Output Fast Transient Response LDO, 1.5 A, Adjustable 1.5 to 5 V Output, 2.7 to 5.5 V Input, with Power Good Output, 20-pin HTSSOP (PWP), -40 to 125 degC, Green (RoHS & no Sb/Br); Manufacturer: Texas Instruments; PartNumber: TPS75101QPWPG4; Accuracy(%): 2; Fixed Output Options(V): 1.5; Iq(Typ)(mA): 0.07; Power Good: TRUE; SubFamily: Single Channel LDO; Vdo(Typ)(mV): 160; Vin(Max)(V): 5.5; Vin(Min)(V): 2.7; Vout Adj(Max)(V): 5; DatasheetVersion: SLVS241C; PackageVersion: 4073225-4/1; PackageReference: PWP20-2675X1950TP; PackageDescription: 20-Pin Plastic Small Outline, Body 4.4 x 6.5 mm, Pitch 0.65 mm; Supplier 1: Digi-Key; Supplier Part Number 1: TPS75101QPWPG4-ND; Supplier 2: Newark; Supplier Part Number 2: 54K1816; Supplier 3: Mouser; Supplier Part Number 3: 595-TPS75101QPWPG4; Eco-Plan: Green (RoHS & no Sb/Br); Iout(Max)(A): 1.5; Vout Adj(Min)(V): 1.5; Mounting Technology: Surface Mount; Code_JEDEC: MO-153; ComponentLink1Description: Manufacturer URL; ComponentLink1URL: http://www.ti.com/; ComponentLink2Description: Datasheet; ComponentLink2URL: http://www.ti.com/general/docs/lit/getliterature.tsp?genericPartNumber=TPS75101&fileType=pdf; ComponentLink3Description: Package Specification; ComponentLink3URL: http://www.ti.com/litv/pdf/mhts001g
footprint TI-PWP20-2675X1950TP_N (SOP, 20-Leads, Body 6.5x4.4mm, Pitch 1.27mm, Thermal Pad 2.675x1.95 mm, IPC Medium Density)
footprint TI-PWP20-2675X1950TP_L (SOP, 20-Leads, Body 6.5x4.4mm, Pitch 1.27mm, Thermal Pad 2.675x1.95 mm, IPC High Density)
footprint TI-PWP20-2675X1950TP_M (SOP, 20-Leads, Body 6.5x4.4mm, Pitch 1.27mm, Thermal Pad 2.675x1.95 mm, IPC Low Density)
part A pins: 3 IN (power) "Input voltage", 4 IN (power) "Input voltage", 5 ~{EN} (in) "Negative polarity enable (E\N\) input", 6 PG (hiz) "open-drain power-good (PG) output.", 7 FB (in) "Adjustable voltage version only; feedback voltage for setting output voltage of the device.", 8 OUTPUT (power) "Regulated output voltage", 9 OUTPUT (power) "Regulated output voltage"
part B pins: 1 GND/HEATSINK (power) "Ground/heatsink", 10 GND/HEATSINK (power) "Ground/heatsink", 11 GND/HEATSINK (power) "Ground/heatsink", 17 GND (power) "Ground", 20 GND/HEATSINK (power) "Ground/heatsink", 21 EP (power)
part C pins: 2 NC "Not connected", 12 NC "Not connected", 13 NC "Not connected", 14 NC "Not connected", 15 NC "Not connected", 16 NC "Not connected", 18 NC "Not connected", 19 NC "Not connected"

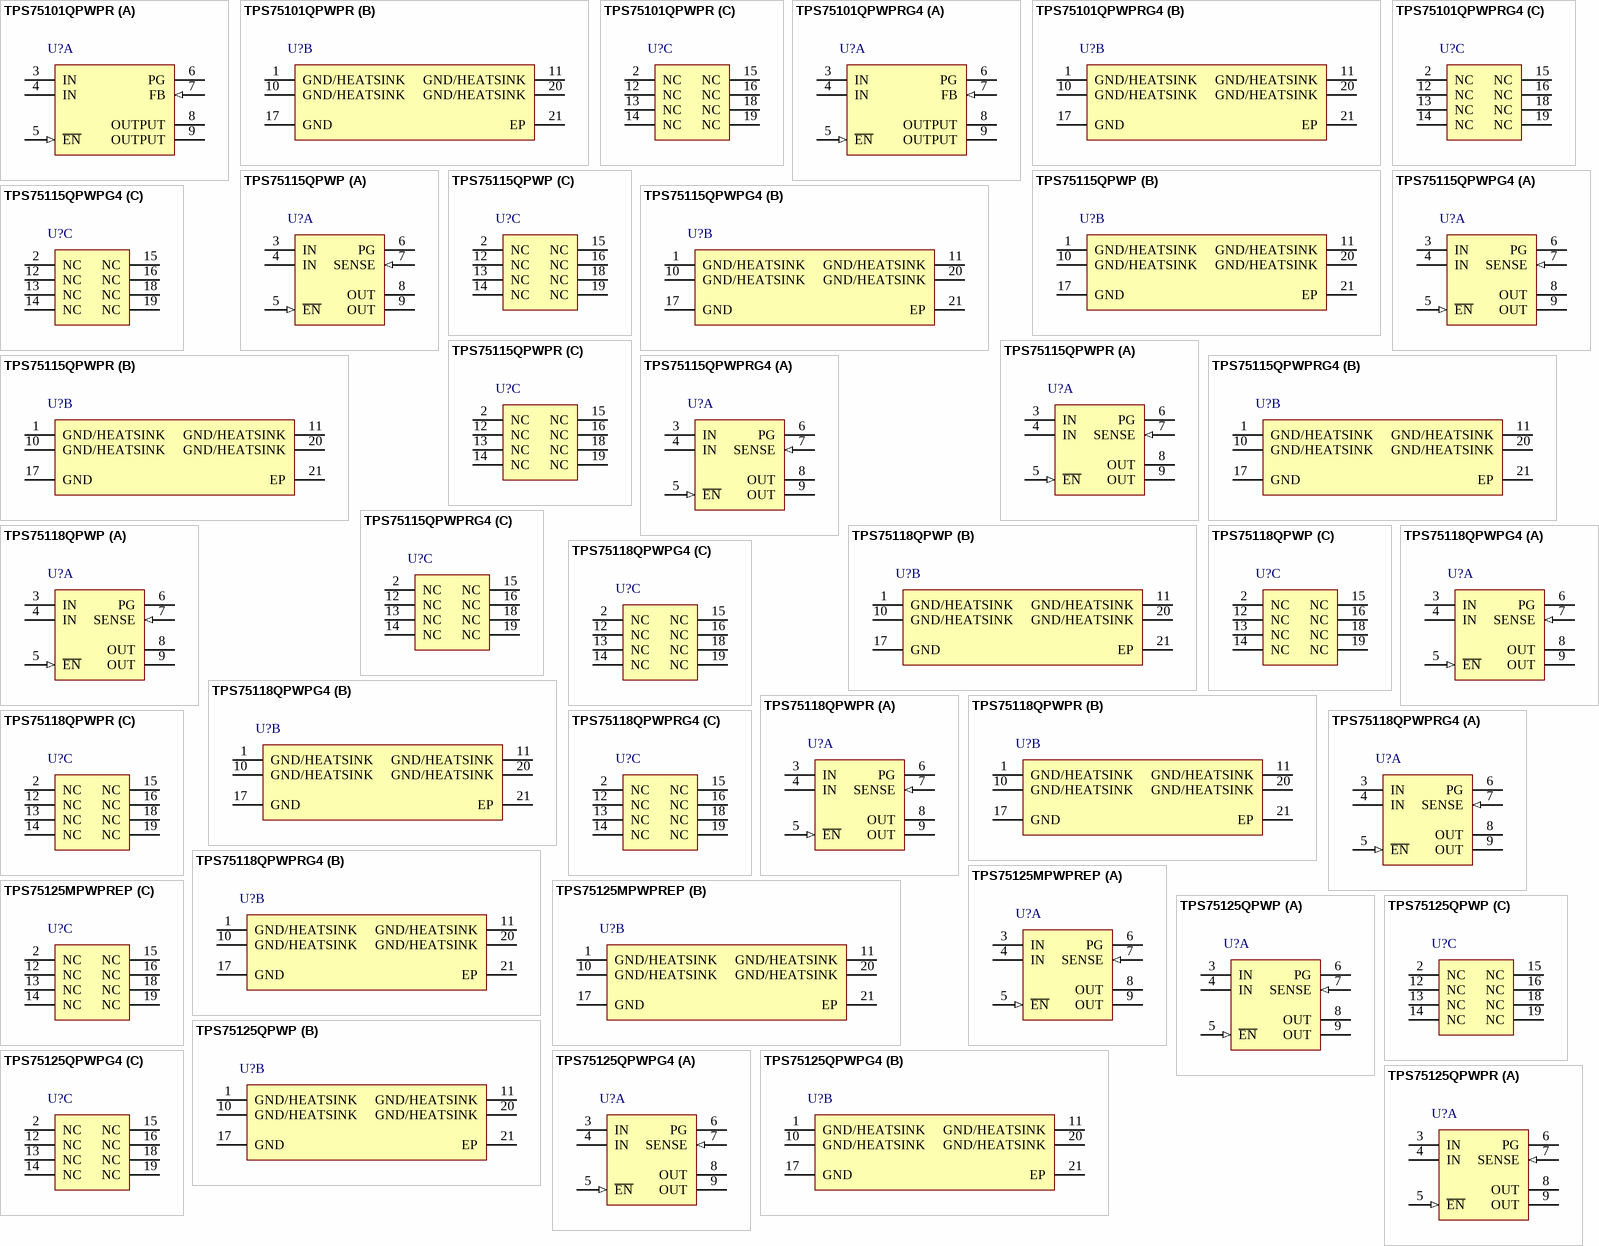
[diagram p17: symbols TPS75101QPWPR to TPS75125QPWPR]